# Altium footprint library Zeter.PcbLib: 30 footprints (part 2 of 2)
Each footprint in its own frame and in the unit in brackets; x right, y up, seen from the top. Pads: shape width x height; smd on the part's side, far side on the other; paste and mask are expansions set on the pad; w line width, h text height; cw(c..) or ccw(c..) is an arc to the next point about the centre after c.
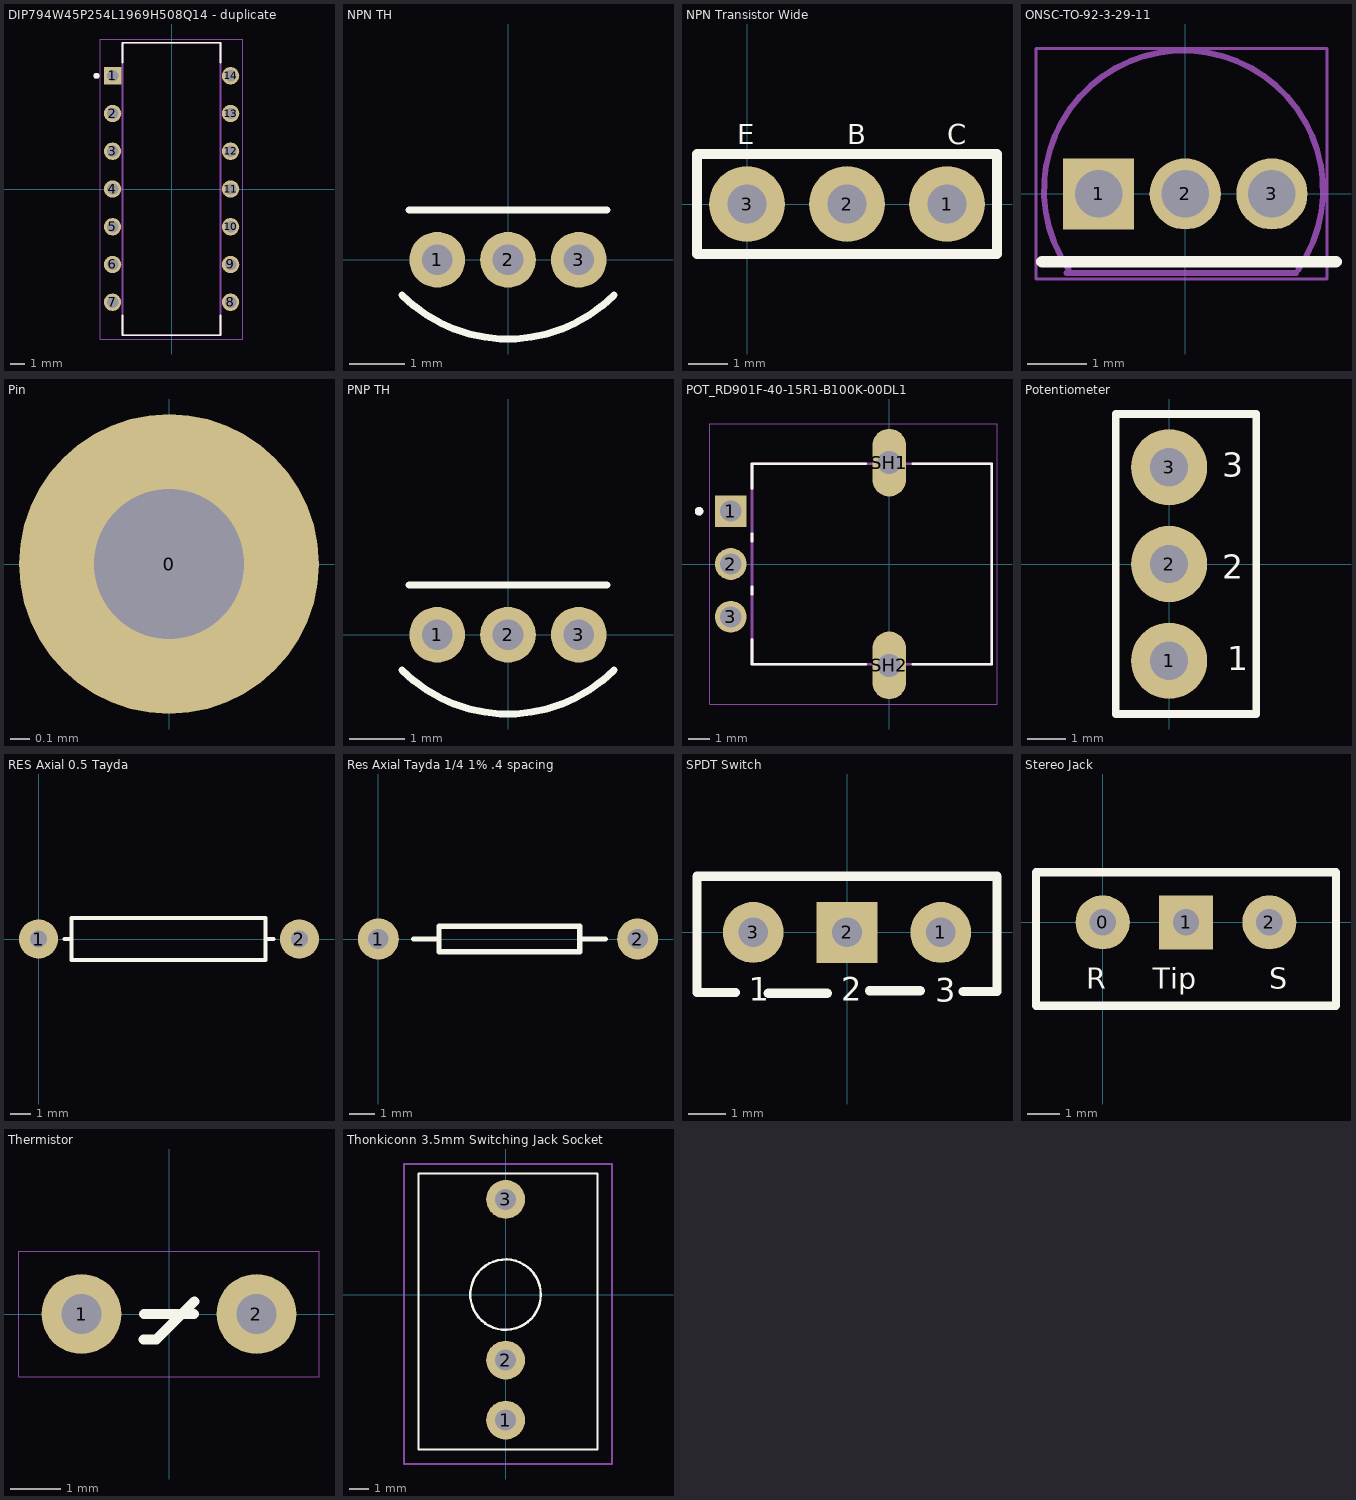
[diagram p1: the footprints below, top view; thin cyan lines are the x and y axes]

## DIP794W45P254L1969H508Q14 - duplicate [mm]
pads (14):
  rect 1.17x1.17 / inner round 1.17 / far side rect 1.17x1.17 hole 0.77: 1(-3.97,7.62)
  round 1.17 hole 0.77: 2(-3.97,5.08) 3(-3.97,2.54) 4(-3.97,0) 5(-3.97,-2.54) 6(-3.97,-5.08) 7(-3.97,-7.62) 8(3.97,-7.62) 9(3.97,-5.08) 10(3.97,-2.54) 11(3.97,0) 12(3.97,2.54) 13(3.97,5.08) 14(3.97,7.62)
Top Overlay:
  circle w0.2: c-5.055,7.62 r0.1
  lines w0.127: -3.3,-8.525 -3.3,-9.845 3.3,-9.845 3.3,-8.525 ; -3.3,8.525 -3.3,9.845 3.3,9.845 3.3,8.525
Mechanical 13:
  circle w0.2: c-5.055,7.62 r0.1
  lines w0.127: -3.3,-9.845 3.3,-9.845 3.3,9.845 -3.3,9.845 -3.3,-9.845
Mechanical 15:
  lines w0.05: -4.805,-10.095 4.805,-10.095 4.805,10.095 -4.805,10.095 -4.805,-10.095
3D body "step_temp.STEP": height 5.08, standoff -3.18, extent -3.935,-9.653 3.935,9.653

## NPN TH [mm]
pads (3):
  round 1 hole 0.55: 1(-1.27,0) 2(0,0) 3(1.27,0)
Top Overlay:
  lines w0.127: -1.905,-0.635 ccw(c0,1.27) 1.905,-0.635 ; -1.778,0.889 1.778,0.889

## NPN Transistor Wide [mm] "Wide Leg Spacing"
pads (3):
  round 1.93 hole 1: 1(5.08,0) 2(2.54,0) 3(0,0)
Top Overlay:
  lines w0.254: -1.27,-1.27 -1.27,1.27 6.35,1.27 6.35,-1.27 -1.27,-1.27
  text "E" at -0.254,1.524 h0.51
  text "B" at 2.54,1.524 h0.51
  text "C" at 5.08,1.524 h0.51
3D body "2N5088 Transistors NPN TO-92 3L (2,54mm).step": height 5.32, standoff -14.2, extent 0.5,-1.63 5.26,2

## ONSC-TO-92-3-29-11 [mm] "TO, 3-Leads, Body Dia 4.7mm, Pitch 1.27mm"
height 7.87
pads (3):
  rect 1.2x1.2 hole 0.8: 1(-1.46,0)
  round 1.2 hole 0.8: 2(0,0) 3(1.46,0)
Top Overlay:
  lines w0.2: -2.413,-1.143 2.54,-1.143
Mechanical 13:
  lines w0.1: -1.997,-1.335 1.87,-1.335 ; -1.963,-1.27 cw(c-0.029,0.065) 1.905,-1.27
Mechanical 15:
  lines w0.05: -2.514,-1.435 -2.514,2.45 2.387,2.45 2.387,-1.435 -2.514,-1.435
  lines w0.1: -0.563,0 0.436,0 ; -0.064,-0.5 -0.064,0.5
3D body: height 7.87, standoff 2.54, extent -2.416,-1.339 2.29,2.355

## Pin [mil] "General Purpose I/O pin"
pads (1):
  round 60 hole 30: 0(0,0)

## PNP TH [mm]
pads (3):
  round 1 hole 0.55: 1(-1.27,0) 2(0,0) 3(1.27,0)
Top Overlay:
  lines w0.127: -1.905,-0.635 ccw(c0,1.27) 1.905,-0.635 ; -1.778,0.889 1.778,0.889
3D body "BC558--3DModel-STEP-1.STEP": height 5.83, standoff -11.68, extent -2.371,-2.221 2.371,1.399

## POT_RD901F-40-15R1-B100K-00DL1 [mm]
height 25
pads (5):
  rect 1.508x1.508 / inner round 1.508 / far side rect 1.508x1.508 hole 1: 1(-7.5,2.5)
  round 1.508 hole 1: 2(-7.5,0) 3(-7.5,-2.5)
  oval 1.6x3.2 hole 1.1 square: SH1(0,4.8) SH2(0,-4.8)
Top Overlay:
  circle w0.2: c-9,2.5 r0.1
  lines w0.127: -6.5,-3.574 -6.5,-4.75 -1.12,-4.75 ; -6.5,-1.426 -6.5,-1.074 ; -6.5,1.074 -6.5,1.426 ; -6.5,3.574 -6.5,4.75 -1.12,4.75 ; 1.12,-4.75 4.85,-4.75 4.85,4.75 1.12,4.75
Mechanical 13:
  circle w0.2: c-9,2.5 r0.1
  lines w0.127: -6.5,-4.75 -6.5,4.75 4.85,4.75 4.85,-4.75 -6.5,-4.75
Mechanical 15:
  lines w0.05: -8.504,-6.65 -8.504,6.65 5.1,6.65 5.1,-6.65 -8.504,-6.65
3D body "step_temp.STEP": height 25, standoff -3.5, extent -7.65,-6 6,6

## Potentiometer [mm] "Normal Pinout"
pads (3):
  round 2 hole 1: 1(0,-2.54) 2(0,0) 3(0,2.54)
Top Overlay:
  lines w0.2: -1.397,-3.937 2.286,-3.937 2.286,3.937 -1.397,3.937 -1.397,-3.937
  text "3" at 1.397,2.286 h0.64
  text "2" at 1.397,-0.381 h0.64
  text "1" at 1.524,-2.794 h0.64

## RES Axial 0.5 Tayda [mil]
pads (2):
  round 75 hole 32: 1(0,0) 2(500,0)
Top Overlay:
  lines w7.87: 50,0 60,0 ; 440,0 450,0 ; 63,-40 63,40 435,40 435,-40 270,-40 63,-40

## Res Axial Tayda 1/4 1% .4 spacing [mm]
pads (2):
  round 1.6 hole 0.8: 1(0,0) 2(10.136,0)
Top Overlay:
  lines w0.2: 1.373,0 2.373,0 ; 7.873,0 8.873,0 ; 2.373,0 2.373,-0.5 7.873,-0.5 7.873,0.5 2.373,0.5 2.373,0

## SPDT Switch [mil] "SPDT Switch"
pads (3):
  round 65 hole 31.5: 1(100,0) 3(-100,0)
  rect 65x65 hole 31.5: 2(0,0)
Top Overlay:
  lines w10: -119,-64 -160,-64 -160,60 160,60 160,-63 124,-63 ; -84,-65 -21,-65 ; 24,-62 78,-62
  text "3" at 94,-74 h25
  text "2" at -6,-73 h25
  text "1" at -105,-73 h25

## Stereo Jack [mil] "Stereo Jack"
pads (3):
  round 65 hole 31.5: 0(0,0) 2(200,0)
  rect 65x65 hole 31.5: 1(100,0)
Top Overlay:
  lines w10: -80,-100 -80,60 280,60 280,-100 -80,-100
  text "S" at 200,-80 h25
  text "Tip" at 60,-80 h25
  text "R" at -20,-80 h25

## Thermistor [mm]
pads (2):
  round 1.6 hole 0.8: 1(-1.75,0) 2(1.75,0)
Top Overlay:
  lines w0.2: -0.508,-0.508 -0.254,-0.508 0.508,0.254 ; -0.5,0 0.5,0
Top Courtyard:
  lines w0.01: -3,-1.25 3,-1.25 3,1.25 -3,1.25 -3,-1.25

## Thonkiconn 3.5mm Switching Jack Socket [mm]
pads (3):
  round 2 hole 1.1: 1(0,-6.48) 2(0,-3.38) 3(0,4.92)
Top Overlay:
  circle w0.127: c0,0 r1.82
  lines w0.1: -4.5,-8 4.75,-8 4.75,6.25 -4.5,6.25 -4.5,0 -4.5,-8
Top Courtyard:
  lines w0.1: -5.25,-8.75 5.5,-8.75 5.5,6.75 -5.25,6.75 -5.25,-8.75
Mechanical 13:
  text "KEEPOUT" at -2.15,-0.4 h0.6
3D body "PJ301M-12.step": height 14, standoff -3.55, extent -4.5,-6.615 4.5,6.115